# EAGLE library part 1091946 (library 1091946)
Jack Modular Connector 8p8c (RJ45, Ethernet) 90Degrees Angle (Right) Unshielded Cat6a
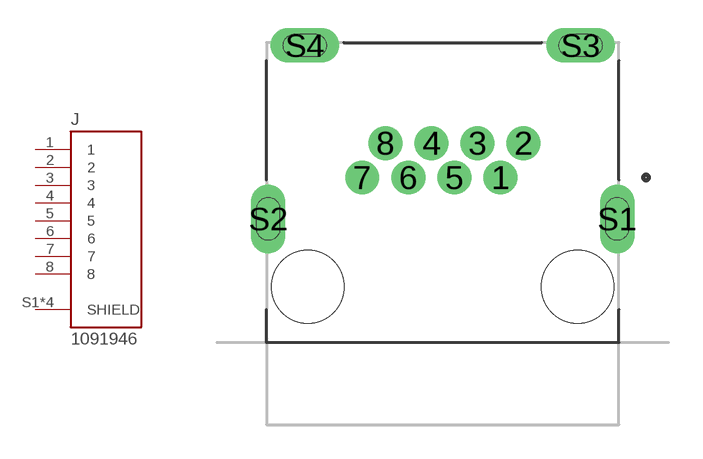
[diagram p0: symbol with the pads of PHOENIX_1091946; footprint PHOENIX_1091946]

Designator prefix J

## 1091946 (Description: Jack Modular Connector 8p8c (RJ45, Ethernet) 90° Angle (Right) Unshielded Cat6a; Digi-Key_Part_Number: 277-1091946-ND; MF: Phoenix Contact; MP: 1091946; Package: None; Purchase-URL: https://pricing.snapeda.com/search/part/1091946/?ref=eda)  [PHOENIX_1091946]
1  1  pas
2  2  pas
3  3  pas
4  4  pas
5  5  pas
6  6  pas
7  7  pas
8  8  pas
S1  SHIELD  pas
S2  SHIELD  pas
S3  SHIELD  pas
S4  SHIELD  pas

## Footprint PHOENIX_1091946 (pad centres in mm)
drill 0.89 pad 1.5: 1 2.56,4.83; 2 3.58,6.35; 3 1.54,6.35; 4 -0.5,6.35; 5 0.52,4.83; 6 -1.52,4.83; 7 -3.56,4.83; 8 -2.54,6.35
drill 1.02 pad 1.4 long: S1 7.72,3; S2 -7.72,3; S3 6.1,10.67; S4 -6.1,10.67
hole 3.22 at -5.97,0
hole 3.22 at 5.97,0